# Altium footprint library Блоки трансформаторов импульсных.PcbLib: 10 footprints
Each footprint in its own frame and in the unit in brackets; x right, y up, seen from the top. Pads: shape width x height; smd on the part's side, far side on the other; paste and mask are expansions set on the pad; w line width, h text height; cw(c..) or ccw(c..) is an arc to the next point about the centre after c.
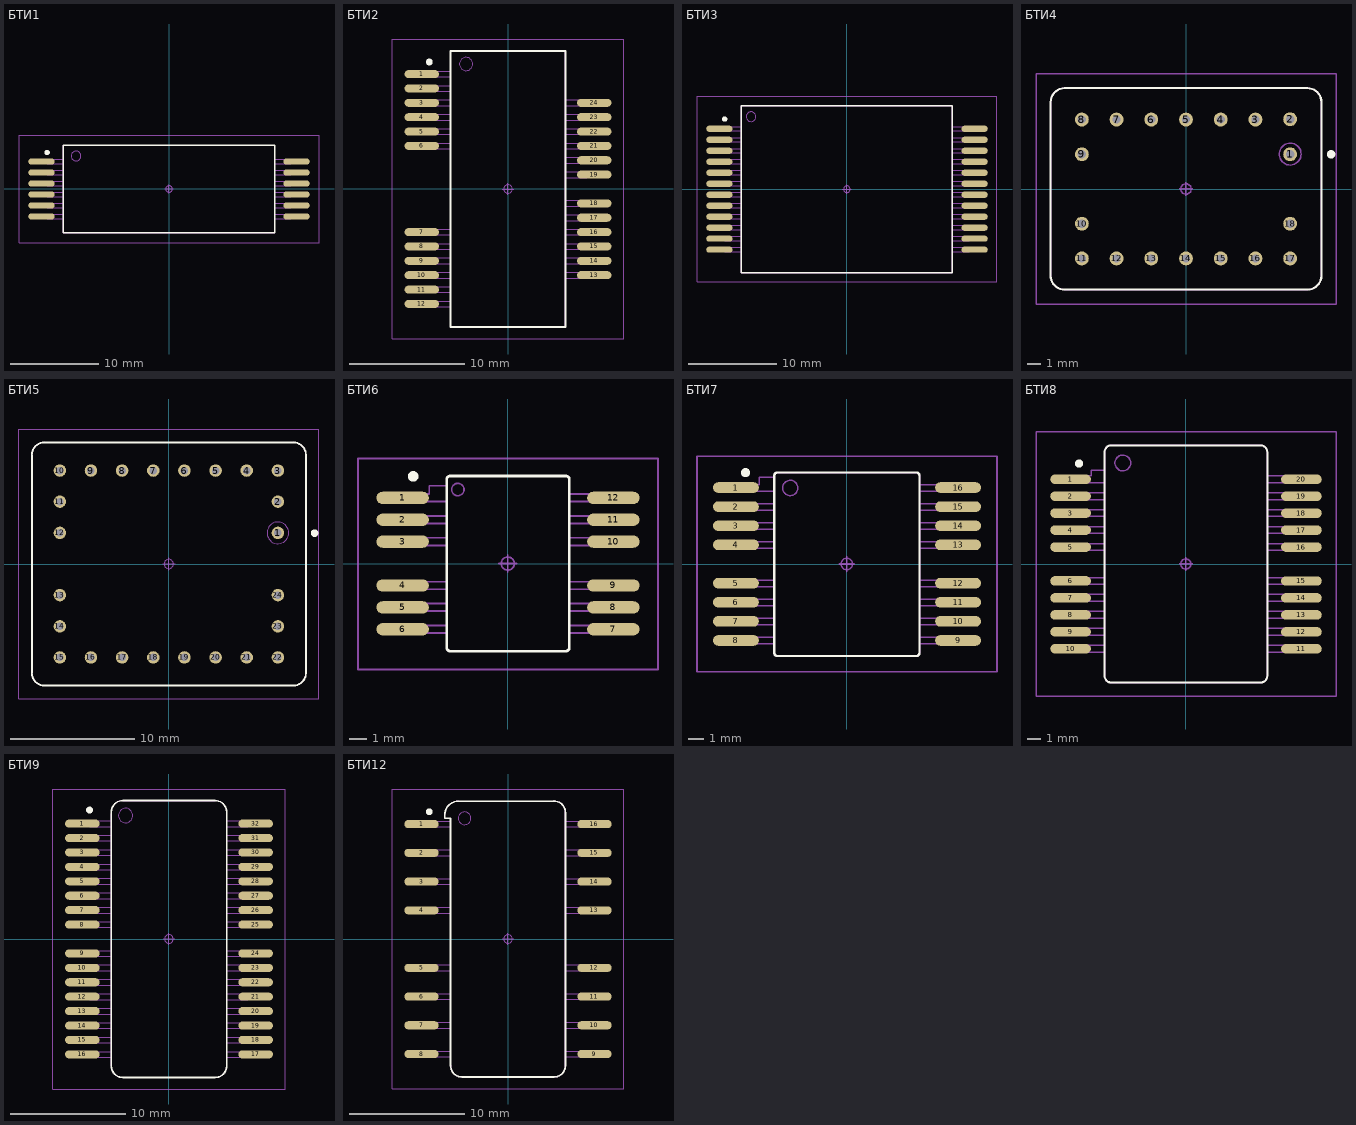
[diagram p0: the footprints below, top view; thin cyan lines are the x and y axes]

## БТИ1 [mm]
height 4.8
pads (12):
  oval 3x0.7 smd: 1(-14.5,3.125) 2(-14.5,1.875) 3(-14.5,0.625) 4(-14.5,-0.625) 5(-14.5,-1.875) 6(-14.5,-3.125) 7(14.5,-3.125) 8(14.5,-1.875) 9(14.5,-0.625) 10(14.5,0.625) 11(14.5,1.875) 12(14.5,3.125)
Top Overlay:
  circle w0.3: c-13.85,4.15 r0.15
  lines w0.15: -12,-5 12,-5 12,5 -12,5 -12,-5
Top Assembly:
  circle w0.1: c-10.575,3.75 r0.555
  lines w0.1: -12,-3.375 -13.85,-3.375 -13.85,-2.875 -12,-2.875 ; -12,-2.125 -13.85,-2.125 -13.85,-1.625 -12,-1.625 ; -12,-0.875 -13.85,-0.875 -13.85,-0.375 -12,-0.375 ; -12,0.375 -13.85,0.375 -13.85,0.875 -12,0.875 ; -12,1.625 -13.85,1.625 -13.85,2.125 -12,2.125 ; -12,2.875 -13.85,2.875 -13.85,3.375 -12,3.375 ; 12,-3.375 13.85,-3.375 13.85,-2.875 12,-2.875 ; 12,-2.125 13.85,-2.125 13.85,-1.625 12,-1.625 ; 12,-0.875 13.85,-0.875 13.85,-0.375 12,-0.375 ; 12,0.375 13.85,0.375 13.85,0.875 12,0.875 ; 12,1.625 13.85,1.625 13.85,2.125 12,2.125 ; 12,2.875 13.85,2.875 13.85,3.375 12,3.375 ; -12,-5 12,-5 12,5 -12,5 -12,-5
Top Courtyard (Mech15):
  circle w0.1: c0,0 r0.375
  lines w0.1: -0.5,0 0.5,0 ; 0,-0.5 0,0.5 ; -17.05,-6.1 17.05,-6.1 17.05,6.1 -17.05,6.1 -17.05,-6.1
3D body "БТИ1.stp": height 4.81, standoff 0, extent -13.35,-5 13.35,5

## БТИ2 [mm]
height 4.2
pads (24):
  oval 3x0.7 smd: 1(-7.5,10) 2(-7.5,8.75) 3(-7.5,7.5) 4(-7.5,6.25) 5(-7.5,5) 6(-7.5,3.75) 7(-7.5,-3.75) 8(-7.5,-5) 9(-7.5,-6.25) 10(-7.5,-7.5) 11(-7.5,-8.75) 12(-7.5,-10) 13(7.5,-7.5) 14(7.5,-6.25) 15(7.5,-5) 16(7.5,-3.75) 17(7.5,-2.5) 18(7.5,-1.25) 19(7.5,1.25) 20(7.5,2.5) 21(7.5,3.75) 22(7.5,5) 23(7.5,6.25) 24(7.5,7.5)
Top Overlay:
  circle w0.3: c-6.85,11.05 r0.15
  lines w0.15: -5,-12 5,-12 5,12 -5,12 -5,-12
Top Assembly:
  circle w0.1: c-3.65,10.875 r0.577
  lines w0.1: -5,-10.25 -6.85,-10.25 -6.85,-9.75 -5,-9.75 ; -5,-9 -6.85,-9 -6.85,-8.5 -5,-8.5 ; -5,-7.75 -6.85,-7.75 -6.85,-7.25 -5,-7.25 ; -5,-6.5 -6.85,-6.5 -6.85,-6 -5,-6 ; -5,-5.25 -6.85,-5.25 -6.85,-4.75 -5,-4.75 ; -5,-4 -6.85,-4 -6.85,-3.5 -5,-3.5 ; -5,3.5 -6.85,3.5 -6.85,4 -5,4 ; -5,4.75 -6.85,4.75 -6.85,5.25 -5,5.25 ; -5,6 -6.85,6 -6.85,6.5 -5,6.5 ; -5,7.25 -6.85,7.25 -6.85,7.75 -5,7.75 ; -5,8.5 -6.85,8.5 -6.85,9 -5,9 ; -5,9.75 -6.85,9.75 -6.85,10.25 -5,10.25 ; 5,-7.75 6.85,-7.75 6.85,-7.25 5,-7.25 ; 5,-6.5 6.85,-6.5 6.85,-6 5,-6 ; 5,-5.25 6.85,-5.25 6.85,-4.75 5,-4.75 ; 5,-4 6.85,-4 6.85,-3.5 5,-3.5 ; 5,-2.75 6.85,-2.75 6.85,-2.25 5,-2.25 ; 5,-1.5 6.85,-1.5 6.85,-1 5,-1 ; 5,1 6.85,1 6.85,1.5 5,1.5 ; 5,2.25 6.85,2.25 6.85,2.75 5,2.75 ; 5,3.5 6.85,3.5 6.85,4 5,4 ; 5,4.75 6.85,4.75 6.85,5.25 5,5.25 ; 5,6 6.85,6 6.85,6.5 5,6.5 ; 5,7.25 6.85,7.25 6.85,7.75 5,7.75 ; -5,-12 5,-12 5,12 -5,12 -5,-12
Top Courtyard (Mech15):
  circle w0.1: c0,0 r0.375
  lines w0.1: -0.5,0 0.5,0 ; 0,-0.5 0,0.5 ; -10.05,-13.05 -10.05,13.05 10.05,13.05 10.05,-13.05 -10.05,-13.05
3D body "БТИ2.stp": height 4.21, standoff 0, extent -6.35,-12 6.35,12

## БТИ3 [mm]
height 4
pads (24):
  oval 3x0.7 smd: 1(-14.5,6.875) 2(-14.5,5.625) 3(-14.5,4.375) 4(-14.5,3.125) 5(-14.5,1.875) 6(-14.5,0.625) 7(-14.5,-0.625) 8(-14.5,-1.875) 9(-14.5,-3.125) 10(-14.5,-4.375) 11(-14.5,-5.625) 12(-14.5,-6.875) 13(14.525,-6.875) 14(14.525,-5.625) 15(14.525,-4.375) 16(14.525,-3.125) 17(14.525,-1.875) 18(14.525,-0.625) 19(14.525,0.625) 20(14.525,1.875) 21(14.525,3.125) 22(14.525,4.375) 23(14.525,5.625) 24(14.525,6.875)
Top Overlay:
  circle w0.3: c-13.9,7.975 r0.15
  lines w0.15: -11.991,-9.494 -11.991,9.506 12.009,9.506 12.009,-9.494 -11.991,-9.494
Top Assembly:
  circle w0.1: c-10.9,8.25 r0.551
  lines w0.1: -11.991,-7.119 -13.9,-7.119 -13.9,-6.619 -11.991,-6.619 ; -11.991,-5.869 -13.9,-5.869 -13.9,-5.369 -11.991,-5.369 ; -11.991,-4.619 -13.9,-4.619 -13.9,-4.119 -11.991,-4.119 ; -11.991,-3.369 -13.9,-3.369 -13.9,-2.869 -11.991,-2.869 ; -11.991,-2.119 -13.9,-2.119 -13.9,-1.619 -11.991,-1.619 ; -11.991,-0.869 -13.9,-0.869 -13.9,-0.369 -11.991,-0.369 ; -11.991,0.381 -13.9,0.381 -13.9,0.881 -11.991,0.881 ; -11.991,1.631 -13.9,1.631 -13.9,2.131 -11.991,2.131 ; -11.991,2.881 -13.9,2.881 -13.9,3.381 -11.991,3.381 ; -11.991,4.131 -13.9,4.131 -13.9,4.631 -11.991,4.631 ; -11.991,5.381 -13.9,5.381 -13.9,5.881 -11.991,5.881 ; -11.991,6.631 -13.9,6.631 -13.9,7.131 -11.991,7.131 ; 12.009,-7.119 13.9,-7.119 13.9,-6.619 12.009,-6.619 ; 12.009,-5.869 13.9,-5.869 13.9,-5.369 12.009,-5.369 ; 12.009,-4.619 13.9,-4.619 13.9,-4.119 12.009,-4.119 ; 12.009,-3.369 13.9,-3.369 13.9,-2.869 12.009,-2.869 ; 12.009,-2.119 13.9,-2.119 13.9,-1.619 12.009,-1.619 ; 12.009,-0.869 13.9,-0.869 13.9,-0.369 12.009,-0.369 ; 12.009,0.381 13.9,0.381 13.9,0.881 12.009,0.881 ; 12.009,1.631 13.9,1.631 13.9,2.131 12.009,2.131 ; 12.009,2.881 13.9,2.881 13.9,3.381 12.009,3.381 ; 12.009,4.131 13.9,4.131 13.9,4.631 12.009,4.631 ; 12.009,5.381 13.9,5.381 13.9,5.881 12.009,5.881 ; 12.009,6.631 13.9,6.631 13.9,7.131 12.009,7.131 ; -11.991,-9.494 12.009,-9.494 12.009,9.506 -11.991,9.506 -11.991,-9.494
Top Courtyard (Mech15):
  circle w0.1: c0,0 r0.375
  lines w0.1: -0.5,0 0.5,0 ; 0,-0.5 0,0.5 ; -17.05,-10.55 17.075,-10.55 17.075,10.6 -17.05,10.6 -17.05,-10.55
3D body "БТИ3.stp": height 4.81, standoff 0, extent -13.35,-9.5 13.35,9.5

## БТИ4 [mm]
height 4.4
pads (18):
  round 1 hole 0.6: 1(7.5,2.5) 2(7.5,5.025) 3(5,5) 4(2.5,5) 5(0,5) 6(-2.5,5) 7(-5,5) 8(-7.5,5) 9(-7.5,2.5) 10(-7.5,-2.5) 11(-7.5,-5) 12(-5,-5) 13(-2.5,-5) 14(0,-5) 15(2.5,-5) 16(5,-5) 17(7.5,-5) 18(7.5,-2.5)
Top Overlay:
  circle w0.3: c10.45,2.5 r0.15
  lines w0.15: -9.748,-6.238 ccw(c-8.748,-6.238) -8.748,-7.238 8.752,-7.238 ccw(c8.752,-6.238) 9.752,-6.238 9.752,6.262 ccw(c8.752,6.262) 8.752,7.262 -8.748,7.262 ccw(c-8.748,6.262) -9.748,6.262 -9.748,-6.238
Top Assembly:
  circle w0.1: c-7.498,-4.988 r0.25
  circle w0.1: c-7.498,-2.488 r0.25
  circle w0.1: c-7.498,2.512 r0.25
  circle w0.1: c-7.498,5.012 r0.25
  circle w0.1: c-4.998,-4.988 r0.25
  circle w0.1: c-4.998,5.012 r0.25
  circle w0.1: c0.002,-4.988 r0.25
  circle w0.1: c0.002,5.012 r0.25
  circle w0.1: c2.502,-4.988 r0.25
  circle w0.1: c2.502,5.012 r0.25
  circle w0.1: c5.002,-4.988 r0.25
  circle w0.1: c5.002,5.012 r0.25
  circle w0.1: c-2.498,-4.988 r0.25
  circle w0.1: c-2.498,5.012 r0.25
  circle w0.1: c7.502,-4.988 r0.25
  circle w0.1: c7.502,-2.488 r0.25
  circle w0.1: c7.502,2.512 r0.25
  circle w0.1: c7.502,5.012 r0.25
  circle w0.1: c7.502,2.512 r0.788
  lines w0.1: -9.748,-6.238 ccw(c-8.748,-6.238) -8.748,-7.238 8.752,-7.238 ccw(c8.752,-6.238) 9.752,-6.238 9.752,6.262 ccw(c8.752,6.262) 8.752,7.262 -8.748,7.262 ccw(c-8.748,6.262) -9.748,6.262 -9.748,-6.238
Top Courtyard (Mech15):
  circle w0.1: c0,0 r0.375
  lines w0.1: -0.5,0 0.5,0 ; 0,-0.5 0,0.5 ; -10.8,-8.3 10.8,-8.3 10.8,8.3 -10.8,8.3 -10.8,-8.3
3D body "БТИ4.stp": height 4.41, standoff -3, extent -9.75,-7.25 9.75,7.25

## БТИ5 [mm]
height 5
pads (24):
  round 1 hole 0.6: 1(8.75,2.5) 2(8.75,5) 3(8.75,7.5) 4(6.25,7.5) 5(3.75,7.5) 6(1.25,7.5) 7(-1.25,7.5) 8(-3.75,7.5) 9(-6.25,7.5) 10(-8.75,7.5) 11(-8.75,5) 12(-8.75,2.5) 13(-8.75,-2.5) 14(-8.75,-5) 15(-8.75,-7.5) 16(-6.25,-7.5) 17(-3.75,-7.5) 18(-1.25,-7.5) 19(1.25,-7.5) 20(3.75,-7.5) 21(6.25,-7.5) 22(8.75,-7.5) 23(8.75,-5) 24(8.75,-2.5)
Top Overlay:
  circle w0.3: c11.7,2.475 r0.15
  lines w0.15: -10.996,-8.75 ccw(c-9.996,-8.75) -9.996,-9.75 10.004,-9.75 ccw(c10.004,-8.75) 11.004,-8.75 11.004,8.75 ccw(c10.004,8.75) 10.004,9.75 -9.996,9.75 ccw(c-9.996,8.75) -10.996,8.75 -10.996,-8.75
Top Assembly:
  circle w0.1: c-8.746,-7.5 r0.25
  circle w0.1: c-8.746,-5 r0.25
  circle w0.1: c-8.746,2.5 r0.25
  circle w0.1: c-8.746,5 r0.25
  circle w0.1: c-1.246,-7.5 r0.25
  circle w0.1: c1.254,-7.5 r0.25
  circle w0.1: c3.754,-7.5 r0.25
  circle w0.1: c8.754,-7.5 r0.25
  circle w0.1: c8.754,-5 r0.25
  circle w0.1: c8.754,2.5 r0.25
  circle w0.1: c8.754,5 r0.25
  circle w0.1: c-8.746,-2.5 r0.25
  circle w0.1: c-8.746,7.5 r0.25
  circle w0.1: c-1.246,7.5 r0.25
  circle w0.1: c1.254,7.5 r0.25
  circle w0.1: c3.754,7.5 r0.25
  circle w0.1: c8.754,-2.5 r0.25
  circle w0.1: c8.754,7.5 r0.25
  circle w0.1: c-6.246,-7.5 r0.25
  circle w0.1: c-3.746,-7.5 r0.25
  circle w0.1: c6.254,-7.5 r0.25
  circle w0.1: c-6.246,7.5 r0.25
  circle w0.1: c-3.746,7.5 r0.25
  circle w0.1: c6.254,7.5 r0.25
  circle w0.1: c8.75,2.5 r0.87
  lines w0.1: -10.996,-8.75 ccw(c-9.996,-8.75) -9.996,-9.75 10.004,-9.75 ccw(c10.004,-8.75) 11.004,-8.75 11.004,8.75 ccw(c10.004,8.75) 10.004,9.75 -9.996,9.75 ccw(c-9.996,8.75) -10.996,8.75 -10.996,-8.75
Top Courtyard (Mech15):
  circle w0.1: c0,0 r0.375
  lines w0.1: -0.5,0 0.5,0 ; 0,-0.5 0,0.5 ; -12.025,-10.8 -12.025,10.8 12.05,10.8 12.05,-10.8 -12.025,-10.8
3D body "БТИ5.stp": height 5.01, standoff -3, extent -11,-9.75 11,9.75

## БТИ6 [mm]
height 2.5
pads (12):
  oval 3x0.7 smd: 1(-6,3.75) 2(-6,2.5) 3(-6,1.25) 4(-6,-1.25) 5(-6,-2.5) 6(-6,-3.75) 7(6.025,-3.75) 8(6.025,-2.5) 9(6.025,-1.25) 10(6.025,1.25) 11(6.025,2.5) 12(6.025,3.75)
Top Overlay:
  circle w0.3: c-5.4,4.975 r0.15
  lines w0.15: -3.487,-4.798 ccw(c-3.287,-4.798) -3.287,-4.998 3.313,-4.998 ccw(c3.313,-4.798) 3.513,-4.798 3.513,4.802 ccw(c3.313,4.802) 3.313,5.002 -3.287,5.002 ccw(c-3.287,4.802) -3.487,4.802 -3.487,-4.798
Top Assembly:
  circle w0.1: c-2.85,4.225 r0.354
  lines w0.1: -3.487,-3.963 -5.375,-3.963 -5.375,-3.533 -3.487,-3.533 ; -3.487,-2.713 -5.375,-2.713 -5.375,-2.283 -3.487,-2.283 ; -3.487,-1.463 -5.375,-1.463 -5.375,-1.033 -3.487,-1.033 ; -3.487,1.037 -5.375,1.037 -5.375,1.467 -3.487,1.467 ; -3.487,2.287 -5.375,2.287 -5.375,2.717 -3.487,2.717 ; -3.487,3.537 -5.375,3.537 -5.375,3.967 -4.487,3.967 -4.487,4.437 -3.487,4.437 ; 3.513,-3.963 5.375,-3.963 5.375,-3.533 3.513,-3.533 ; 3.513,-2.713 5.375,-2.713 5.375,-2.283 3.513,-2.283 ; 3.513,-1.463 5.375,-1.463 5.375,-1.033 3.513,-1.033 ; 3.513,1.037 5.375,1.037 5.375,1.467 3.513,1.467 ; 3.513,2.287 5.375,2.287 5.375,2.717 3.513,2.717 ; 3.513,3.537 5.375,3.537 5.375,3.967 3.513,3.967 ; -3.487,-4.798 ccw(c-3.287,-4.798) -3.287,-4.998 3.313,-4.998 ccw(c3.313,-4.798) 3.513,-4.798 3.513,4.802 ccw(c3.313,4.802) 3.313,5.002 -3.287,5.002 ccw(c-3.287,4.802) -3.487,4.802 -3.487,-4.798
Top Courtyard (Mech15):
  circle w0.1: c0,0 r0.375
  lines w0.1: -0.5,0 0.5,0 ; 0,-0.5 0,0.5 ; -8.55,-6.05 8.575,-6.05 8.575,6 -8.55,6 -8.55,-6.05
3D body "БТИ6.stp": height 2.51, standoff 0, extent -4.85,-5 4.85,5

## БТИ7 [mm]
height 2
pads (16):
  oval 3x0.7 smd: 1(-7.25,5) 2(-7.25,3.75) 3(-7.25,2.5) 4(-7.25,1.25) 5(-7.25,-1.25) 6(-7.25,-2.5) 7(-7.25,-3.75) 8(-7.25,-5) 9(7.275,-5) 10(7.275,-3.75) 11(7.275,-2.5) 12(7.275,-1.25) 13(7.275,1.25) 14(7.275,2.5) 15(7.275,3.75) 16(7.275,5)
Top Overlay:
  circle w0.3: c-6.625,5.975 r0.15
  lines w0.15: -4.743,-5.817 ccw(c-4.543,-5.817) -4.543,-6.017 4.557,-6.017 ccw(c4.557,-5.817) 4.757,-5.817 4.757,5.783 ccw(c4.557,5.783) 4.557,5.983 -4.543,5.983 ccw(c-4.543,5.783) -4.743,5.783 -4.743,-5.817
Top Assembly:
  circle w0.1: c-3.7,4.975 r0.5
  lines w0.1: -4.743,-5.232 -6.6,-5.232 -6.6,-4.802 -4.743,-4.802 ; -4.743,-3.982 -6.6,-3.982 -6.6,-3.552 -4.743,-3.552 ; -4.743,-2.732 -6.6,-2.732 -6.6,-2.302 -4.743,-2.302 ; -4.743,-1.482 -6.6,-1.482 -6.6,-1.052 -4.743,-1.052 ; -4.743,1.018 -6.6,1.018 -6.6,1.448 -4.743,1.448 ; -4.743,2.268 -6.6,2.268 -6.6,2.698 -4.743,2.698 ; -4.743,3.518 -6.6,3.518 -6.6,3.948 -4.743,3.948 ; -4.743,4.768 -6.6,4.768 -6.6,5.198 -5.743,5.198 -5.743,5.668 -4.743,5.668 ; 4.757,-5.232 6.6,-5.232 6.6,-4.802 4.757,-4.802 ; 4.757,-3.982 6.6,-3.982 6.6,-3.552 4.757,-3.552 ; 4.757,-2.732 6.6,-2.732 6.6,-2.302 4.757,-2.302 ; 4.757,-1.482 6.6,-1.482 6.6,-1.052 4.757,-1.052 ; 4.757,1.018 6.6,1.018 6.6,1.448 4.757,1.448 ; 4.757,2.268 6.6,2.268 6.6,2.698 4.757,2.698 ; 4.757,3.518 6.6,3.518 6.6,3.948 4.757,3.948 ; 4.757,4.768 6.6,4.768 6.6,5.198 4.757,5.198 ; -4.743,-5.817 ccw(c-4.543,-5.817) -4.543,-6.017 4.557,-6.017 ccw(c4.557,-5.817) 4.757,-5.817 4.757,5.783 ccw(c4.557,5.783) 4.557,5.983 -4.543,5.983 ccw(c-4.543,5.783) -4.743,5.783 -4.743,-5.817
Top Courtyard (Mech15):
  circle w0.1: c0,0 r0.375
  lines w0.1: -0.5,0 0.5,0 ; 0,-0.5 0,0.5 ; -9.8,-7.05 9.825,-7.05 9.825,7.05 -9.8,7.05 -9.8,-7.05
3D body "БТИ7.stp": height 2.51, standoff 0, extent -6.1,-6 6.1,6

## БТИ8 [mm]
height 4
pads (20):
  oval 3x0.7 smd: 1(-8.5,6.25) 2(-8.5,5) 3(-8.5,3.75) 4(-8.5,2.5) 5(-8.5,1.25) 6(-8.5,-1.25) 7(-8.5,-2.5) 8(-8.5,-3.75) 9(-8.5,-5) 10(-8.5,-6.25) 11(8.525,-6.253) 12(8.525,-5.003) 13(8.525,-3.753) 14(8.525,-2.503) 15(8.525,-1.253) 16(8.525,1.247) 17(8.525,2.497) 18(8.525,3.747) 19(8.525,4.997) 20(8.525,6.247)
Top Overlay:
  circle w0.3: c-7.875,7.4 r0.15
  lines w0.15: -5.993,-8.247 ccw(c-5.493,-8.247) -5.493,-8.747 5.507,-8.747 ccw(c5.507,-8.247) 6.007,-8.247 6.007,8.253 ccw(c5.507,8.253) 5.507,8.753 -5.493,8.753 ccw(c-5.493,8.253) -5.993,8.253 -5.993,-8.247
Top Assembly:
  circle w0.1: c-4.65,7.45 r0.586
  lines w0.1: -5.993,-6.497 -7.85,-6.497 -7.85,-5.997 -5.993,-5.997 ; -5.993,-5.247 -7.85,-5.247 -7.85,-4.747 -5.993,-4.747 ; -5.993,-3.997 -7.85,-3.997 -7.85,-3.497 -5.993,-3.497 ; -5.993,-2.747 -7.85,-2.747 -7.85,-2.247 -5.993,-2.247 ; -5.993,-1.497 -7.85,-1.497 -7.85,-0.997 -5.993,-0.997 ; -5.993,1.003 -7.85,1.003 -7.85,1.503 -5.993,1.503 ; -5.993,2.253 -7.85,2.253 -7.85,2.753 -5.993,2.753 ; -5.993,3.503 -7.85,3.503 -7.85,4.003 -5.993,4.003 ; -5.993,4.753 -7.85,4.753 -7.85,5.253 -5.993,5.253 ; -5.993,6.003 -7.85,6.003 -7.85,6.503 -6.993,6.503 -6.993,6.903 -5.993,6.903 ; 6.007,-6.497 7.85,-6.497 7.85,-5.997 6.007,-5.997 ; 6.007,-5.247 7.85,-5.247 7.85,-4.747 6.007,-4.747 ; 6.007,-3.997 7.85,-3.997 7.85,-3.497 6.007,-3.497 ; 6.007,-2.747 7.85,-2.747 7.85,-2.247 6.007,-2.247 ; 6.007,-1.497 7.85,-1.497 7.85,-0.997 6.007,-0.997 ; 6.007,1.003 7.85,1.003 7.85,1.503 6.007,1.503 ; 6.007,2.253 7.85,2.253 7.85,2.753 6.007,2.753 ; 6.007,3.503 7.85,3.503 7.85,4.003 6.007,4.003 ; 6.007,4.753 7.85,4.753 7.85,5.253 6.007,5.253 ; 6.007,6.003 7.85,6.003 7.85,6.503 6.007,6.503 ; -5.993,-8.247 ccw(c-5.493,-8.247) -5.493,-8.747 5.507,-8.747 ccw(c5.507,-8.247) 6.007,-8.247 6.007,8.253 ccw(c5.507,8.253) 5.507,8.753 -5.493,8.753 ccw(c-5.493,8.253) -5.993,8.253 -5.993,-8.247
Top Courtyard (Mech15):
  circle w0.1: c0,0 r0.375
  lines w0.1: -0.5,0 0.5,0 ; 0,-0.5 0,0.5 ; -11.05,-9.75 11.075,-9.75 11.075,9.75 -11.05,9.75 -11.05,-9.75
3D body "БТИ8.stp": height 4.51, standoff 0, extent -7.35,-8.75 7.35,8.75

## БТИ9 [mm]
height 4
pads (32):
  oval 3x0.7 smd: 1(-7.5,10) 2(-7.5,8.75) 3(-7.5,7.5) 4(-7.5,6.25) 5(-7.5,5) 6(-7.5,3.75) 7(-7.5,2.5) 8(-7.5,1.25) 9(-7.5,-1.25) 10(-7.5,-2.5) 11(-7.5,-3.75) 12(-7.5,-5) 13(-7.5,-6.25) 14(-7.5,-7.5) 15(-7.5,-8.75) 16(-7.5,-10) 17(7.525,-10) 18(7.525,-8.75) 19(7.525,-7.5) 20(7.525,-6.25) 21(7.525,-5) 22(7.525,-3.75) 23(7.525,-2.5) 24(7.525,-1.25) 25(7.525,1.25) 26(7.525,2.5) 27(7.525,3.75) 28(7.525,5) 29(7.525,6.25) 30(7.525,7.5) 31(7.525,8.75) 32(7.525,10)
Top Overlay:
  circle w0.3: c-6.875,11.175 r0.15
  lines w0.15: -4.989,-11.004 -4.989,10.996 cw(c-3.989,10.996) -3.989,11.996 ; -4.988,-11.003 ccw(c-3.988,-11.003) -3.988,-12.003 4.012,-12.003 ccw(c4.012,-11.003) 5.012,-11.003 5.012,10.997 ccw(c4.012,10.997) 4.012,11.997 -3.973,11.997
Top Assembly:
  circle w0.1: c-3.75,10.7 r0.625
  lines w0.1: -4.988,-10.253 -6.85,-10.253 -6.85,-9.753 -4.988,-9.753 ; -4.988,-9.003 -6.85,-9.003 -6.85,-8.503 -4.988,-8.503 ; -4.988,-7.753 -6.85,-7.753 -6.85,-7.253 -4.988,-7.253 ; -4.988,-6.503 -6.85,-6.503 -6.85,-6.003 -4.988,-6.003 ; -4.988,-5.253 -6.85,-5.253 -6.85,-4.753 -4.988,-4.753 ; -4.988,-4.003 -6.85,-4.003 -6.85,-3.503 -4.988,-3.503 ; -4.988,-2.753 -6.85,-2.753 -6.85,-2.253 -4.988,-2.253 ; -4.988,-1.503 -6.85,-1.503 -6.85,-1.003 -4.988,-1.003 ; -4.988,0.997 -6.85,0.997 -6.85,1.497 -4.988,1.497 ; -4.988,2.247 -6.85,2.247 -6.85,2.747 -4.988,2.747 ; -4.988,3.497 -6.85,3.497 -6.85,3.997 -4.988,3.997 ; -4.988,4.747 -6.85,4.747 -6.85,5.247 -4.988,5.247 ; -4.988,5.997 -6.85,5.997 -6.85,6.497 -4.988,6.497 ; -4.988,7.247 -6.85,7.247 -6.85,7.747 -4.988,7.747 ; -4.988,8.497 -6.85,8.497 -6.85,8.997 -4.988,8.997 ; -4.988,9.747 -6.85,9.747 -6.85,10.247 -4.988,10.247 ; -4.988,10.839 -4.988,-11.003 ccw(c-3.988,-11.003) -3.988,-12.003 4.012,-12.003 ccw(c4.012,-11.003) 5.012,-11.003 5.012,10.997 ccw(c4.012,10.997) 4.012,11.997 -3.988,11.997 ccw(c-3.988,10.997) -4.624,11.769 ; 5.012,-10.253 6.85,-10.253 6.85,-9.753 5.012,-9.753 ; 5.012,-9.003 6.85,-9.003 6.85,-8.503 5.012,-8.503 ; 5.012,-7.753 6.85,-7.753 6.85,-7.253 5.012,-7.253 ; 5.012,-6.503 6.85,-6.503 6.85,-6.003 5.012,-6.003 ; 5.012,-5.253 6.85,-5.253 6.85,-4.753 5.012,-4.753 ; 5.012,-4.003 6.85,-4.003 6.85,-3.503 5.012,-3.503 ; 5.012,-2.753 6.85,-2.753 6.85,-2.253 5.012,-2.253 ; 5.012,-1.503 6.85,-1.503 6.85,-1.003 5.012,-1.003 ; 5.012,0.997 6.85,0.997 6.85,1.497 5.012,1.497 ; 5.012,2.247 6.85,2.247 6.85,2.747 5.012,2.747 ; 5.012,3.497 6.85,3.497 6.85,3.997 5.012,3.997 ; 5.012,4.747 6.85,4.747 6.85,5.247 5.012,5.247 ; 5.012,5.997 6.85,5.997 6.85,6.497 5.012,6.497 ; 5.012,7.247 6.85,7.247 6.85,7.747 5.012,7.747 ; 5.012,8.497 6.85,8.497 6.85,8.997 5.012,8.997 ; 5.012,9.747 6.85,9.747 6.85,10.247 5.012,10.247
Top Courtyard (Mech15):
  circle w0.1: c0,0 r0.375
  lines w0.1: -0.5,0 0.5,0 ; 0,-0.5 0,0.5 ; -10.05,-13 -10.05,13 10.075,13 10.075,-13 -10.05,-13
3D body "БТИ9.stp": height 4.39, standoff 0.02, extent -6.35,-12 6.35,12

## БТИ12 [mm]
height 4.8
pads (16):
  oval 3x0.7 smd: 1(-7.525,10) 2(-7.525,7.5) 3(-7.525,5) 4(-7.525,2.495) 5(-7.525,-2.505) 6(-7.525,-5.007) 7(-7.525,-7.505) 8(-7.525,-10.005) 9(7.525,-10.005) 10(7.525,-7.505) 11(7.525,-5.005) 12(7.525,-2.505) 13(7.525,2.489) 14(7.525,4.995) 15(7.525,7.495) 16(7.525,9.995)
Top Overlay:
  circle w0.3: c-6.85,11.075 r0.15
  lines w0.15: 5,10.995 5,-11.005 cw(c4,-11.005) 4,-12.005 -4,-12.005 cw(c-4,-11.005) -5,-11.005 -5,10.495 -5.5,10.495 -5.5,10.795 cw(c-4.3,10.795) -4.3,11.995 4,12 cw(c4,11) 5,11
Top Assembly:
  circle w0.1: c-3.775,10.5 r0.551
  lines w0.1: -5,-10.255 -6.85,-10.255 -6.85,-9.755 -5,-9.755 ; -5,-7.755 -6.85,-7.755 -6.85,-7.255 -5,-7.255 ; -5,-5.255 -6.85,-5.255 -6.85,-4.755 -5,-4.755 ; -5,-2.755 -6.85,-2.755 -6.85,-2.255 -5,-2.255 ; -5,2.245 -6.85,2.245 -6.85,2.745 -5,2.745 ; -5,4.745 -6.85,4.745 -6.85,5.245 -5,5.245 ; -5,7.245 -6.85,7.245 -6.85,7.745 -5,7.745 ; -5,9.745 -6.85,9.745 -6.85,10.245 -5,10.245 ; -4,-12 4.3,-12 ; -4,-12.005 cw(c-4,-11.005) -5,-11.005 -5,10.495 -5.5,10.495 -5.5,10.795 cw(c-4.3,10.795) -4.3,11.995 4,11.995 cw(c4,10.995) 5,10.995 5,-11.005 cw(c4,-11.005) 4,-12.005 ; 5,-10.255 6.85,-10.255 6.85,-9.755 5,-9.755 ; 5,-7.755 6.85,-7.755 6.85,-7.255 5,-7.255 ; 5,-5.255 6.85,-5.255 6.85,-4.755 5,-4.755 ; 5,-2.755 6.85,-2.755 6.85,-2.255 5,-2.255 ; 5,2.245 6.85,2.245 6.85,2.745 5,2.745 ; 5,4.745 6.85,4.745 6.85,5.245 5,5.245 ; 5,7.245 6.85,7.245 6.85,7.745 5,7.745 ; 5,9.745 6.85,9.745 6.85,10.245 5,10.245
Top Courtyard (Mech15):
  circle w0.1: c0,0 r0.375
  lines w0.1: -0.5,0 0.5,0 ; 0,-0.5 0,0.5 ; -10.075,-13.05 10.075,-13.05 10.075,13.05 -10.075,13.05 -10.075,-13.05
3D body "БТИ12.stp": height 4.39, standoff 0.02, extent -6.35,-12 6.35,12